# Altium footprint library ZhangXue.PcbLib: 39 footprints (part 1 of 3)
Each footprint in its own frame and in the unit in brackets; x right, y up, seen from the top. Pads: shape width x height; smd on the part's side, far side on the other; paste and mask are expansions set on the pad; w line width, h text height; cw(c..) or ccw(c..) is an arc to the next point about the centre after c.
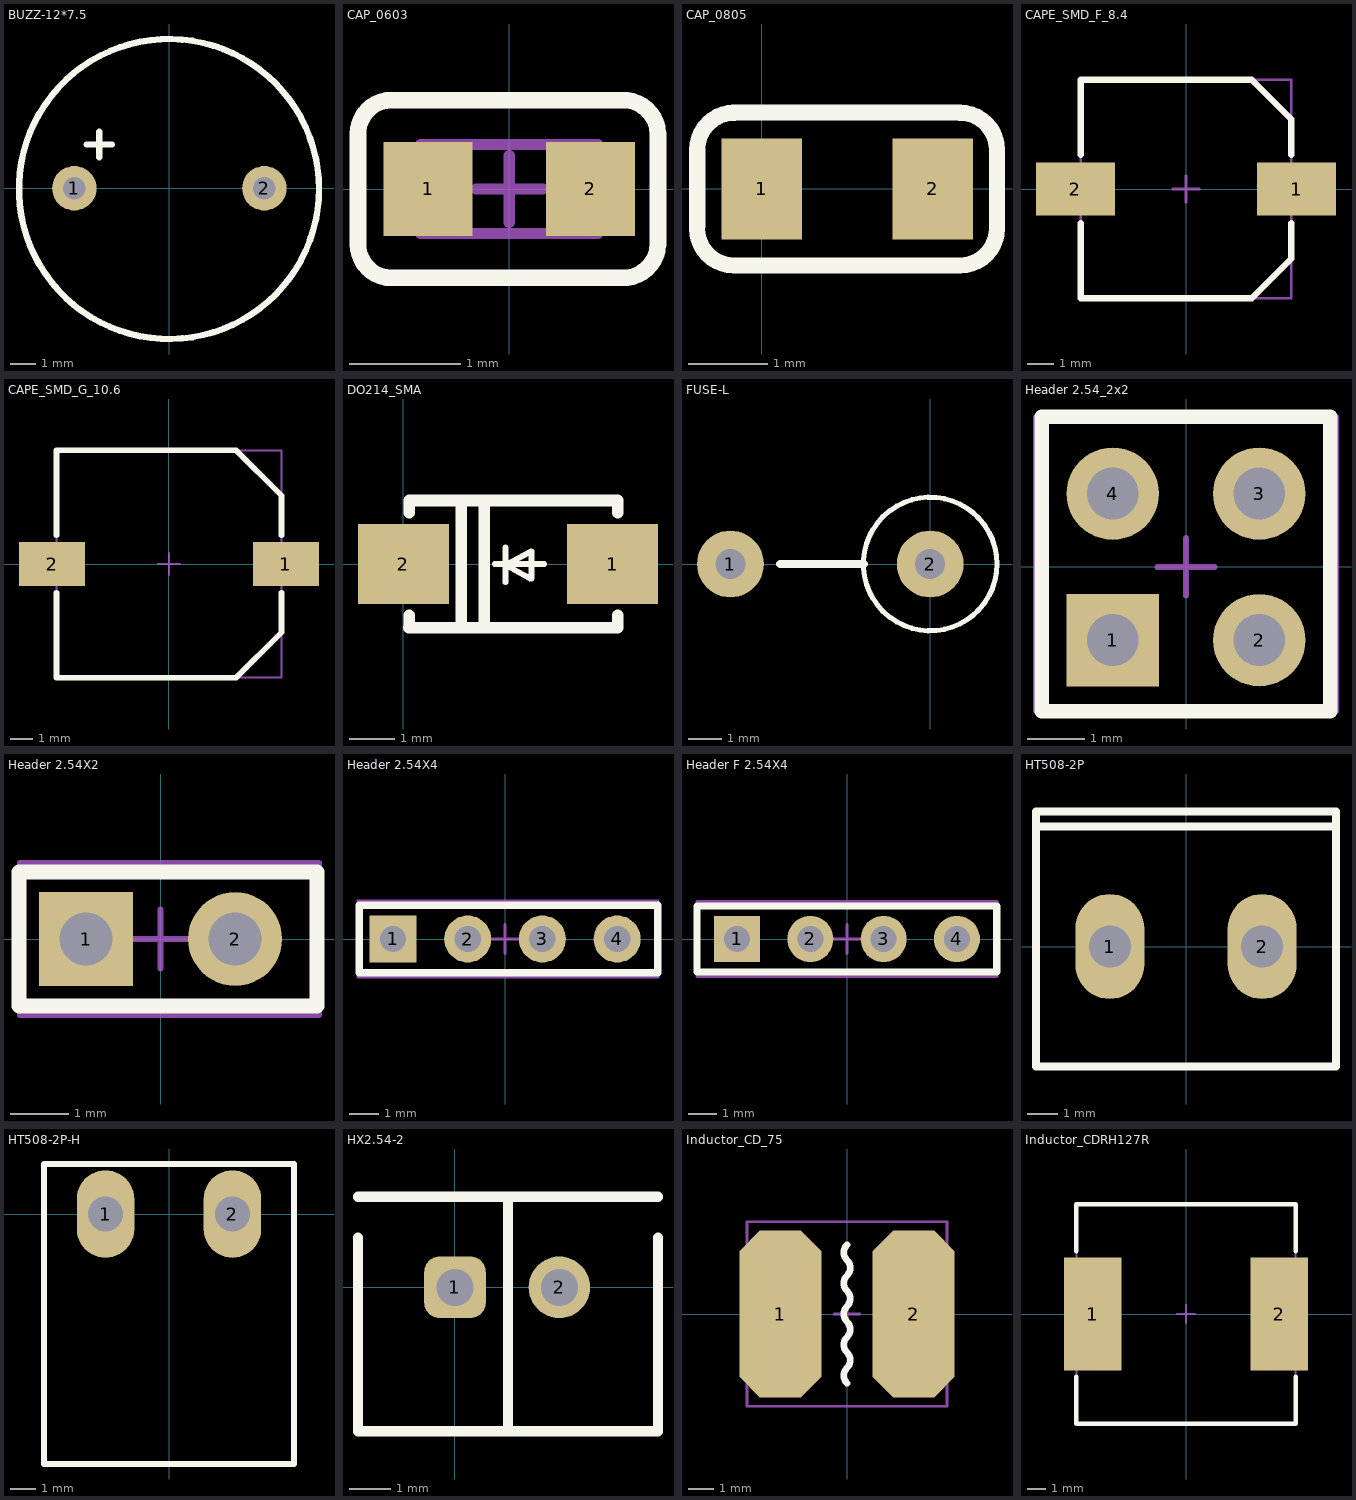
[diagram p0: the footprints below, top view; thin cyan lines are the x and y axes]

## BUZZ-12*7.5 [mil]
pads (2):
  round 70 hole 35.4: 1(-149.6,0) 2(149.6,0)
Top Overlay:
  circle w10: c-0.5,-1.2 r236.2
  lines w10: -130.5,68.8 -90.5,68.8 ; -110.5,48.8 -110.5,88.8
3D body "BUZZER-12x8.5-6.5.step": height 338.66, standoff -212.52, extent -243.11,-240.53 229.33,231.91

## CAP_0603 [mm]
pads (2):
  rect 0.8x0.85 smd: 1(-0.73,0) 2(0.73,0)
Top Overlay:
  lines w0.15: 1.339,0.475 1.339,-0.5 cw(c1.026,-0.487) 1.014,-0.8 -1.061,-0.8 cw(c-1.061,-0.5) -1.361,-0.5 -1.361,0.5 cw(c-1.061,0.5) -1.061,0.8 1.014,0.8 cw(c1.026,0.487) 1.339,0.5
Mechanical 15:
  lines w0.1: -0.297,0 0.303,0 ; 0,-0.3 0,0.3 ; -0.8,-0.4 0.8,-0.4 0.8,0.4 -0.8,0.4 -0.8,-0.4
3D body "CAPC1608(0603).STEP": height 0.6, standoff 0, extent -0.8,-0.4 0.8,0.4

## CAP_0805 [mil]
pads (2):
  rect 40x50 smd: 1(0,0) 2(85,0)
Top Overlay:
  lines w8: -32.11,-19.59 ccw(c-13.7,-19.59) -13.7,-38 ; -32,-18.5 -32,18.5 ; -32,19.5 cw(c-13.59,19.5) -13.59,37.91 ; -14.12,38 98.09,38 ; -12.7,-38 98.11,-38 ; 98.59,-38 ccw(c98.59,-19.59) 117,-19.59 ; 98.59,37.91 cw(c98.59,19.5) 117,19.5 ; 117,-18.59 117,18.5
3D body "CAPC2012(0805).STEP": height 37.4, standoff 0, extent 3.63,-23.62 82.37,23.62

## CAPE_SMD_F_8.4 [mm]
pads (2):
  rect 3x2 smd: 1(4.2,0) 2(-4.2,0)
Top Overlay:
  lines w0.254: -4,-1.3 -4,-4.15 2.5,-4.15 4,-2.65 4,-1.3 ; -4,1.3 -4,4.15 2.5,4.15 4,2.65 4,1.3
Mechanical 15:
  lines w0.1: -0.5,0 0.5,0 ; 0,-0.5 0,0.5 ; -4,-4.15 4,-4.15 4,4.15 -4,4.15 -4,-4.15
3D body "CAPE-F.STEP": height 10.2, standoff 0, extent -4.95,-4.15 4.95,4.15

## CAPE_SMD_G_10.6 [mm]
pads (2):
  rect 3x2 smd: 1(5.3,0) 2(-5.3,0)
Top Overlay:
  lines w0.254: -5.1,-1.3 -5.1,-5.15 3.05,-5.15 5.1,-3.1 5.1,-1.3 ; -5.1,1.3 -5.1,5.15 3.05,5.15 5.1,3.1 5.1,1.3
Mechanical 15:
  lines w0.1: -0.5,0 0.5,0 ; 0,-0.5 0,0.5 ; -5.1,-5.15 -5.1,5.15 5.1,5.15 5.1,-5.15 -5.1,-5.15
3D body "CAPE-G.STEP": height 10.2, standoff 0, extent -5.8,-5.15 5.8,5.15

## DO214_SMA [mm]
pads (2):
  rect 2x1.75 smd: 1(4.6,0) 2(0,0)
Top Overlay:
  lines w0.127: 2.007,0 3.099,0 ; 2.247,-0.401 2.247,-0.02 ; 2.247,0.361 2.247,-0.02 ; 2.789,-0.321 2.247,-0.02 ; 2.819,-0.321 2.819,0.279 2.247,-0.02
  lines w0.254: 0.113,-1.4 4.713,-1.4 4.713,-1.131 ; 0.127,-1.4 0.127,-1.131 ; 0.127,1.131 0.127,1.397 4.713,1.397 ; 1.27,-1.4 1.27,1.397 ; 1.778,-1.4 1.778,1.397 ; 4.713,1.131 4.713,1.4
3D body "SMA 5.5 mm x 2.8 mm x 2.6 mm (LxWxH).STEP": height 2.6, standoff 0.03, extent -0.337,-1.4 5.163,1.4

## FUSE-L [mil]
pads (2):
  round 79 hole 35.43: 1(-236.22,0) 2(0,0)
Top Overlay:
  circle w6: c0,0 r79
  lines w10: -177.17,0 -78.74,0
3D body "保": height 545.04, standoff -77.66, extent -249.02,-74.21 77.68,83.27

## Header 2.54_2x2 [mm]
pads (4):
  rect 1.6x1.6 hole 0.9: 1(-1.27,-1.27)
  round 1.6 hole 0.9: 2(1.27,-1.27) 3(1.27,1.27) 4(-1.27,1.27)
Top Overlay:
  lines w0.254: -2.5,-2.5 2.5,-2.5 2.5,2.6 -2.5,2.6 -2.5,-2.5
Mechanical 15:
  lines w0.1: -0.5,0 0.5,0 ; 0,-0.5 0,0.5 ; -2.6,-2.5 2.6,-2.5 2.6,2.6 -2.6,2.6 -2.6,-2.5
3D body "HEADER 2.54-2X4.stp": height 8.6, standoff -2.9, extent -2.54,-2.5 2.54,2.58

## Header 2.54X2 [mm]
pads (2):
  rect 1.6x1.6 hole 0.9: 1(-1.27,0)
  round 1.6 hole 0.9: 2(1.27,0)
Top Overlay:
  lines w0.254: -2.413,-1.143 2.667,-1.143 2.667,1.143 -2.413,1.143 -2.413,-1.143
Mechanical 15:
  lines w0.1: -0.5,0 0.5,0 ; 0,-0.5 0,0.5 ; -2.4,-1.3 2.7,-1.3 2.7,1.3 -2.4,1.3 -2.4,-1.3
3D body "HEADER 2.54X2.stp": height 8.3, standoff -2.9, extent -2.413,-1.228 2.667,1.27

## Header 2.54X4 [mm]
pads (4):
  rect 1.6x1.6 hole 0.9: 1(-3.81,0)
  round 1.6 hole 0.9: 2(-1.27,0) 3(1.27,0) 4(3.81,0)
Top Overlay:
  lines w0.254: -4.953,-1.143 5.19,-1.143 5.19,1.143 -4.953,1.143 -4.953,-1.143
Mechanical 15:
  lines w0.1: -0.5,0 0.5,0 ; 0,-0.5 0,0.5 ; -5,-1.3 5.2,-1.3 5.2,1.3 -5,1.3 -5,-1.3
3D body "HEADER 2.54X4.stp": height 8.3, standoff -2.9, extent -4.953,-1.229 5.207,1.27

## Header F 2.54X4 [mm]
pads (4):
  rect 1.6x1.6 hole 0.9: 1(-3.81,0)
  round 1.6 hole 0.9: 2(-1.27,0) 3(1.27,0) 4(3.81,0)
Top Overlay:
  lines w0.254: -5.2,-1.143 -5.2,1.143 5.19,1.143 5.19,-1.143 -5.2,-1.143
Mechanical 15:
  lines w0.1: -0.5,0 0.5,0 ; 0,-0.5 0,0.5 ; -5.2,-1.3 -5.2,1.3 5.2,1.3 5.2,-1.3 -5.2,-1.3
3D body "Header-F-2.54X4.stp": height 8.6, standoff -3.1, extent -5.205,-1.25 5.205,1.25

## HT508-2P [mm]
pads (2):
  oval 2.3x3.5 hole 1.4: 1(-2.54,0) 2(2.54,0)
Top Overlay:
  lines w0.254: -5,4 -5,4.5 5,4.5 5,4 ; -5,4 -5,-4 5,-4 5,4 ; -5,4 5,4
Mechanical 15:
  lines w0.1: -5,-4 5,-4 5,4 -5,4 -5,-4
3D body "Header-2EDG-5.08-2.STEP": height 12, standoff -2.5, extent -5,-4 5,4.471

## HT508-2P-H [mm]
pads (2):
  oval 2.3x3.5 hole 1.4: 1(-2.54,0) 2(2.54,0)
Top Overlay:
  lines w0.254: -5,-10 -5,2 5,2 5,-10 -5,-10
Mechanical 15:
  lines w0.1: -5.08,-10 5.08,-10 5.08,2 -5.08,2 -5.08,-10
3D body "Header-2EDGR-5.08-2.STEP": height 8.6, standoff -3.5, extent -5.08,-10 5.08,2.002

## HX2.54-2 [mm]
pads (2):
  rrect50% 1.5x1.5 hole 0.9: 1(0,0)
  round 1.5 hole 0.9: 2(2.54,0)
Top Overlay:
  lines w0.254: -2.36,1.206 -2.36,-3.5 4.94,-3.5 4.94,1.206 ; -2.36,2.2 4.94,2.2 ; 1.29,-3.5 1.29,2.2
3D body "SIP2_Y.stp": height 7, standoff -3, extent -2.48,-3.55 5.02,2.45

## Inductor_CD_75 [mm]
pads (2):
  oct 3.2x6.5 smd: 1(-2.6,0) 2(2.6,0)
Top Overlay:
  lines w0.254: 0,-2.7 cw(c0.3,-2.4) 0,-2.1 ccw(c-0.3,-1.8) 0,-1.5 cw(c0.3,-1.2) 0,-0.9 ccw(c-0.3,-0.6) 0,-0.3 cw(c0.3,0) 0,0.3 ccw(c-0.3,0.6) 0,0.9 cw(c0.3,1.2) 0,1.5 ccw(c-0.3,1.8) 0,2.1 cw(c0.3,2.4) 0,2.7
Mechanical 15:
  lines w0.1: -0.5,0 0.5,0 ; 0,-0.5 0,0.5 ; -3.9,-3.6 3.9,-3.6 3.9,3.6 -3.9,3.6 -3.9,-3.6
3D body "Inductor-CD-75.STEP": height 5.05, standoff 0, extent -3.827,-3.5 3.827,3.5

## Inductor_CDRH127R [mm]
pads (2):
  rect 3.2x6.3 smd: 1(-5.2,0) 2(5.2,0)
Top Overlay:
  lines w0.254: -6.1,-3.5 -6.1,-6.1 6.1,-6.1 6.1,-3.5 ; -6.1,3.5 -6.1,6.1 6.1,6.1 6.1,3.5
Mechanical 15:
  lines w0.1: -0.5,0 0.5,0 ; 0,-0.5 0,0.5 ; -6.1,-6.1 6.1,-6.1 6.1,6.1 -6.1,6.1 -6.1,-6.1
3D body "Iductor-CDRH-127.STEP": height 6.8, standoff 0.1, extent -6.25,-6.3 6.25,6.2